# Altium footprint library SFE-Custom-Footprints.PcbLib: 154 footprints (part 3 of 10)
Each footprint in its own frame and in the unit in brackets; x right, y up, seen from the top. Pads: shape width x height; smd on the part's side, far side on the other; paste and mask are expansions set on the pad; w line width, h text height; cw(c..) or ccw(c..) is an arc to the next point about the centre after c.
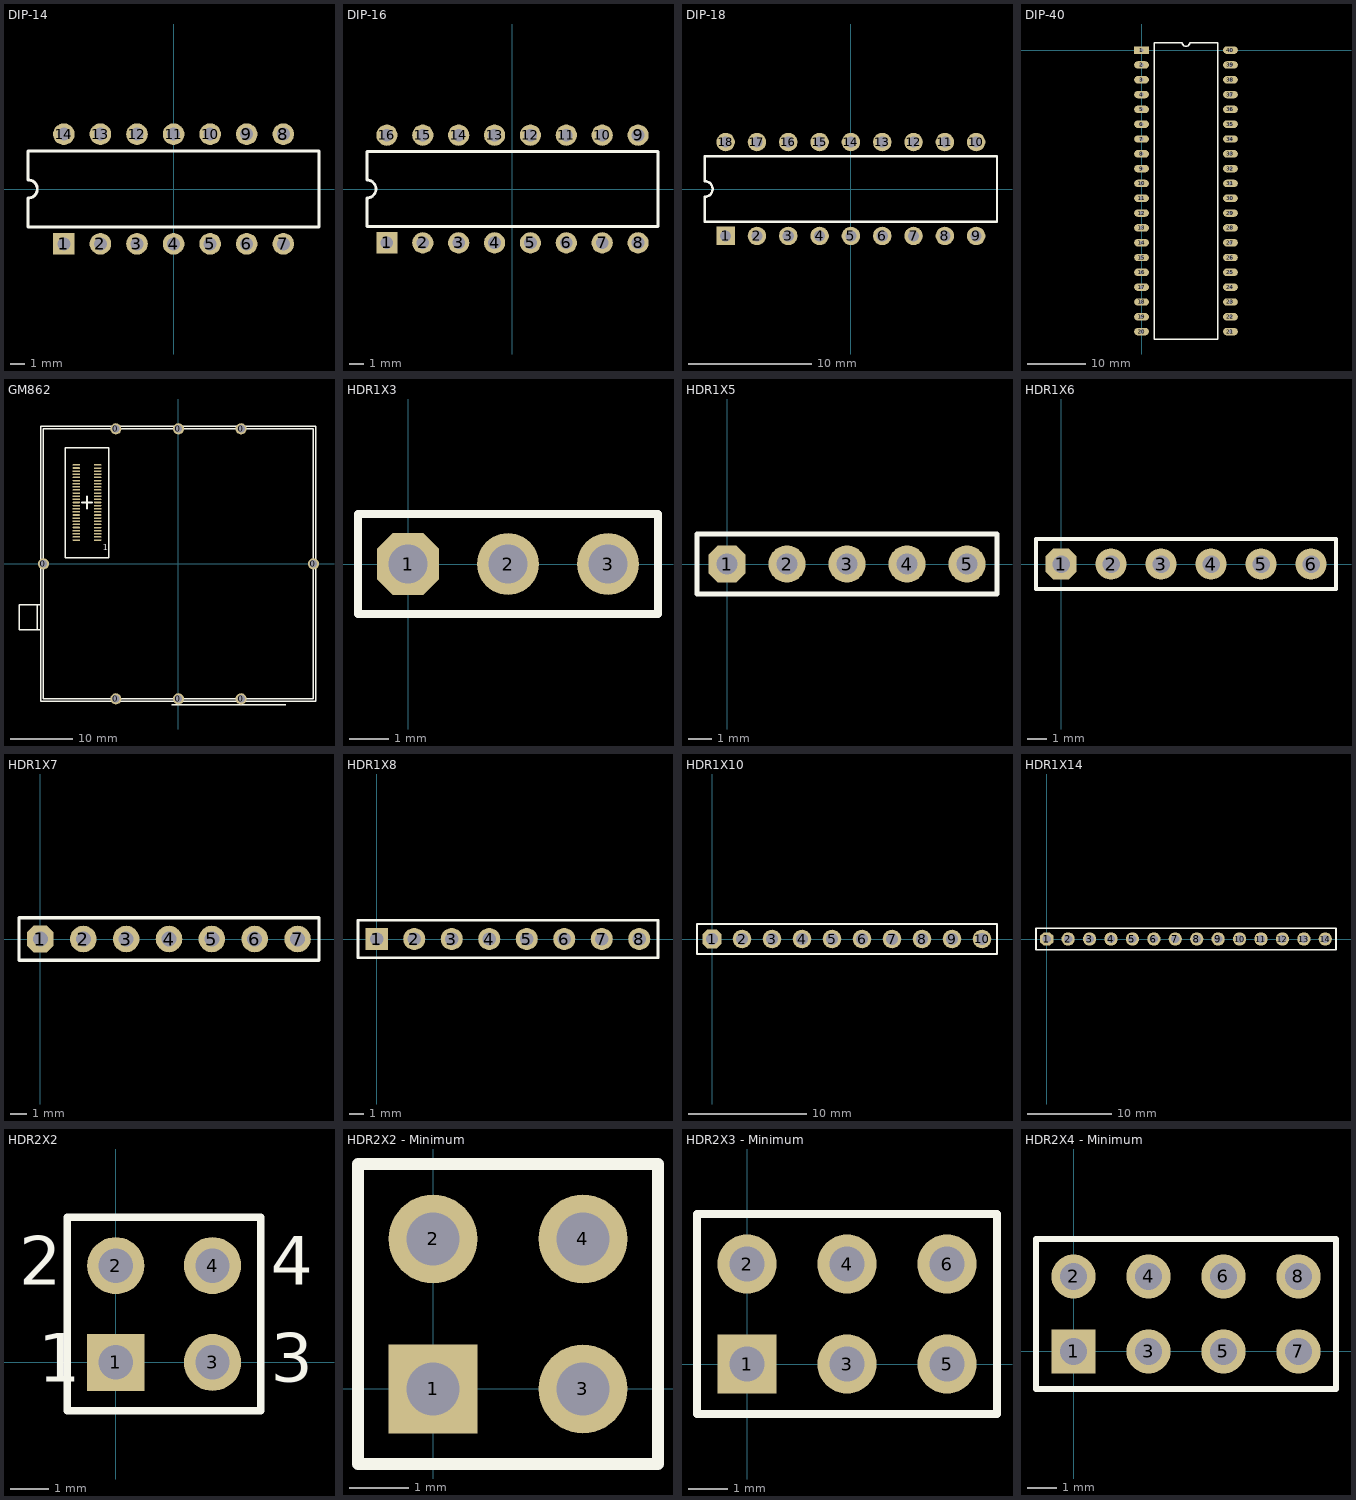
[diagram p2: the footprints below, top view; thin cyan lines are the x and y axes]

## DIP-14 [mm]
pads (14):
  rect 1.5x1.5 hole 0.9: 1(-7.62,-3.81)
  round 1.5 hole 0.9: 2(-5.08,-3.81) 3(-2.54,-3.81) 4(0,-3.81) 5(2.54,-3.81) 6(5.08,-3.81) 7(7.62,-3.81) 8(7.62,3.81) 9(5.08,3.81) 10(2.54,3.81) 11(0,3.81) 12(-2.54,3.81) 13(-5.08,3.81) 14(-7.62,3.81)
Top Overlay:
  lines w0.2: -10.1,-2.65 10.1,-2.65 10.1,2.65 -10.1,2.65 -10.1,0.635 cw(c-10.1,0) -10.1,-0.635 -10.1,-2.65

## DIP-16 [mm]
pads (16):
  rect 1.5x1.5 hole 0.9: 1(-8.89,-3.81)
  round 1.5 hole 0.9: 2(-6.35,-3.81) 3(-3.81,-3.81) 4(-1.27,-3.81) 5(1.27,-3.81) 6(3.81,-3.81) 7(6.35,-3.81) 8(8.89,-3.81) 9(8.89,3.81) 10(6.35,3.81) 11(3.81,3.81) 12(1.27,3.81) 13(-1.27,3.81) 14(-3.81,3.81) 15(-6.35,3.81) 16(-8.89,3.81)
Top Overlay:
  lines w0.2: -10.3,-2.65 10.3,-2.65 10.3,2.65 -10.3,2.65 -10.3,0.635 cw(c-10.3,0) -10.3,-0.635 -10.3,-2.65

## DIP-18 [mm]
pads (18):
  rect 1.5x1.5 hole 0.9: 1(-10.16,-3.81)
  round 1.5 hole 0.9: 2(-7.62,-3.81) 3(-5.08,-3.81) 4(-2.54,-3.81) 5(0,-3.81) 6(2.54,-3.81) 7(5.08,-3.81) 8(7.62,-3.81) 9(10.16,-3.81) 10(10.16,3.81) 11(7.62,3.81) 12(5.08,3.81) 13(2.54,3.81) 14(0,3.81) 15(-2.54,3.81) 16(-5.08,3.81) 17(-7.62,3.81) 18(-10.16,3.81)
Top Overlay:
  lines w0.2: -11.85,-2.65 -11.85,-0.635 ccw(c-11.85,0) -11.85,0.635 -11.85,2.65 11.85,2.65 11.85,-2.65 -11.85,-2.65

## DIP-40 [mil]
pads (40):
  rect 100x50 hole 25: 1(0,0)
  oval 100x50 hole 25: 2(0,-100) 3(0,-200) 4(0,-300) 5(0,-400) 6(0,-500) 7(0,-600) 8(0,-700) 9(0,-800) 10(0,-900) 11(0,-1000) 12(0,-1100) 13(0,-1200) 14(0,-1300) 15(0,-1400) 16(0,-1500) 17(0,-1600) 18(0,-1700) 19(0,-1800) 20(0,-1900) 21(600,-1900) 22(600,-1800) 23(600,-1700) 24(600,-1600) 25(600,-1500) 26(600,-1400) 27(600,-1300) 28(600,-1200) 29(600,-1100) 30(600,-1000) 31(600,-900) 32(600,-800) 33(600,-700) 34(600,-600) 35(600,-500) 36(600,-400) 37(600,-300) 38(600,-200) 39(600,-100) 40(600,0)
Top Overlay:
  lines w10: 85,-1950 515,-1950 515,50 325,50 cw(c300,50) 275,50 85,50 85,-1950

## GM862 [mm]
pads (58):
  round 1.778 hole 1.2: 0(-21.55,0) 0(-10,-21.55) 0(-10,21.55) 0(0,-21.55) 0(0,21.55) 0(10,-21.55) 0(10,21.55) 0(21.55,0)
  oval 1.2x0.25 smd: 1(-12.898,3.788) 2(-16.298,3.792) 3(-12.898,4.288) 4(-16.298,4.292) 5(-12.898,4.788) 6(-16.298,4.792) 7(-12.898,5.288) 8(-16.298,5.292) 9(-12.898,5.788) 10(-16.298,5.792) 11(-12.899,6.287) 12(-16.298,6.292) 13(-12.898,6.788) 14(-16.298,6.792) 15(-12.898,7.288) 16(-16.298,7.292) 17(-12.898,7.788) 18(-16.298,7.792) 19(-12.898,8.288) 20(-16.298,8.292) 21(-12.898,8.788) 22(-16.298,8.792) 23(-12.898,9.288) 24(-16.298,9.292) 25(-12.898,9.788) 26(-16.298,9.792) 27(-12.898,10.288) 28(-16.298,10.292) 29(-12.898,10.788) 30(-16.298,10.792) 31(-12.898,11.288) 32(-16.298,11.292) 33(-12.898,11.788) 34(-16.298,11.792) 35(-12.898,12.288) 36(-16.298,12.292) 37(-12.898,12.788) 38(-16.298,12.792) 39(-12.898,13.288) 40(-16.298,13.292) 41(-12.898,13.788) 42(-16.298,13.792) 43(-12.898,14.288) 44(-16.298,14.292) 45(-12.898,14.788) 46(-16.298,14.792) 47(-12.898,15.288) 48(-16.298,15.292) 49(-12.898,15.788) 50(-16.298,15.792)
Top Overlay:
  lines w0.203: -22.5,-10.5 -22.5,-6.5 ; -21.95,-10.5 -25.45,-10.5 -25.45,-6.5 -21.95,-6.5 ; -1.1,-22.5 17.15,-22.5 ; -21.95,-21.95 21.95,-21.95 21.95,21.95 -21.95,21.95 -21.95,-21.95 ; -21.55,-21.55 21.55,-21.55 21.55,21.55 -21.55,21.55 -21.55,-21.55 ; -18.1,1 -11.1,1 -11.1,18.5 -18.1,18.5 -18.1,1
  lines w0.254: -15.448,9.788 -13.748,9.788 ; -14.598,8.788 -14.598,10.788
  text "1" at -12.101,2.188 h1.02

## HDR1X3 [mil]
pads (3):
  oct 62x62 hole 39.4: 1(0,0)
  round 62 hole 39.4: 2(100,0) 3(200,0)
Top Overlay:
  lines w8: -50,-50 -50,50 250,50 250,-50 -50,-50

## HDR1X5 [mil]
pads (5):
  oct 62x62 hole 35: 1(0,0)
  round 62 hole 35: 2(100,0) 3(200,0) 4(300,0) 5(400,0)
Top Overlay:
  lines w8: -50,-50 -50,50 450,50 450,-50 -50,-50

## HDR1X6 [mil]
pads (6):
  oct 62x62 hole 35: 1(0,0)
  round 62 hole 35: 2(100,0) 3(200,0) 4(300,0) 5(400,0) 6(500,0)
Top Overlay:
  lines w8: -50,-50 -50,50 550,50 550,-50 -50,-50

## HDR1X7 [mil]
pads (7):
  oct 62x62 hole 35: 1(0,0)
  round 62 hole 35: 2(100,0) 3(200,0) 4(300,0) 5(400,0) 6(500,0) 7(600,0)
Top Overlay:
  lines w8: -50,-50 650,-50 650,50 -50,50 -50,-50

## HDR1X8 [mm]
pads (8):
  rect 1.5x1.5 hole 0.9: 1(0,0)
  round 1.5 hole 0.9: 2(2.54,0) 3(5.08,0) 4(7.62,0) 5(10.16,0) 6(12.7,0) 7(15.24,0) 8(17.78,0)
Top Overlay:
  lines w0.2: -1.27,-1.27 19.05,-1.27 19.05,1.27 -1.27,1.27 -1.27,-1.27

## HDR1X10 [mil]
pads (10):
  oct 62x62 hole 39.4: 1(0,0)
  round 62 hole 39.4: 2(100,0) 3(200,0) 4(300,0) 5(400,0) 6(500,0) 7(600,0) 8(700,0) 9(800,0) 10(900,0)
Top Overlay:
  lines w8: -50,-50 -50,50 25,50 950,50 950,-50 -50,-50

## HDR1X14 [mil]
pads (14):
  oct 62x62 hole 39.4: 1(0,0)
  round 62 hole 39.4: 2(100,0) 3(200,0) 4(300,0) 5(400,0) 6(500,0) 7(600,0) 8(700,0) 9(800,0) 10(900,0) 11(1000,0) 12(1100,0) 13(1200,0) 14(1300,0)
Top Overlay:
  lines w8: -50,-50 -50,50 25,50 1350,50 1350,-50 -50,-50

## HDR2X2 [mm]
pads (4):
  rect 1.5x1.5 hole 0.9: 1(0,0)
  round 1.5 hole 0.9: 2(0,2.54) 3(2.54,0) 4(2.54,2.54)
Top Overlay:
  lines w0.2: -1.27,-1.27 -1.27,3.81 3.81,3.81 3.81,-1.27 -1.27,-1.27
  text "1" at -2.032,-0.508 h1.27
  text "2" at -2.54,2.032 h1.27
  text "4" at 4.064,2.032 h1.27
  text "3" at 4.064,-0.508 h1.27

## HDR2X2 - Minimum [mm]
pads (4):
  rect 1.5x1.5 hole 0.9: 1(0,0)
  round 1.5 hole 0.9: 2(0,2.54) 3(2.54,0) 4(2.54,2.54)
Top Overlay:
  lines w0.2: -1.27,-1.27 3.81,-1.27 3.81,3.81 -1.27,3.81 -1.27,-1.27

## HDR2X3 - Minimum [mm]
pads (6):
  rect 1.5x1.5 hole 0.9: 1(0,0)
  round 1.5 hole 0.9: 2(0,2.54) 3(2.54,0) 4(2.54,2.54) 5(5.08,0) 6(5.08,2.54)
Top Overlay:
  lines w0.2: -1.27,-1.27 -1.27,3.81 6.35,3.81 6.35,-1.27 -1.27,-1.27

## HDR2X4 - Minimum [mm]
pads (8):
  rect 1.5x1.5 hole 0.9: 1(0,0)
  round 1.5 hole 0.9: 2(0,2.54) 3(2.54,0) 4(2.54,2.54) 5(5.08,0) 6(5.08,2.54) 7(7.62,0) 8(7.62,2.54)
Top Overlay:
  lines w0.2: -1.27,-1.27 8.89,-1.27 8.89,3.81 -1.27,3.81 -1.27,-1.27